# Altium footprint library CL05B103KA5NNND.PcbLib: 3 footprints
Each footprint in its own frame and in the unit in brackets; x right, y up, seen from the top. Pads: shape width x height; smd on the part's side, far side on the other; paste and mask are expansions set on the pad; w line width, h text height; cw(c..) or ccw(c..) is an arc to the next point about the centre after c.
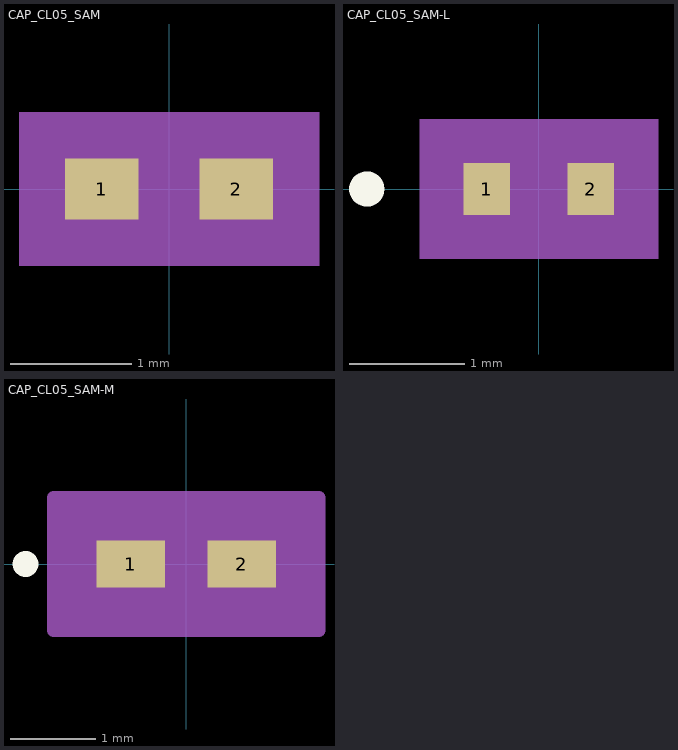
[diagram p0: the footprints below, top view; thin cyan lines are the x and y axes]

## CAP_CL05_SAM [mm]
pads (2):
  rect 0.606x0.5 smd paste+0 mask+0: 1(-0.553,0) 2(0.553,0)
Mechanical 5:
  region: 1.237,-0.631 -1.237,-0.631 -1.237,0.631 1.237,0.631
Mechanical 13:
  circle w0: c-0.426,0 r0
  lines w0.025: -0.5,-0.25 -0.5,0.25 ; -0.5,-0.25 -0.25,-0.25 -0.25,0.25 -0.5,0.25 ; -0.5,-0.25 0.5,-0.25 ; -0.5,-0.25 -0.5,0.25 ; -0.5,0.25 0.5,0.25 ; 0.5,-0.25 0.25,-0.25 0.25,0.25 0.5,0.25 ; 0.5,-0.25 0.5,0.25 ; 0.5,-0.25 0.5,0.25
Mechanical 15:
  region: 1.11,-0.504 -1.11,-0.504 -1.11,0.504 1.11,0.504
  lines w0.152: -1.11,-0.504 -1.11,0.504 1.11,0.504 1.11,-0.504 -1.11,-0.504
3D body "CAP_CL05_SAM.step": height 0.55, standoff 0, extent -0.5,-0.25 0.5,0.25

## CAP_CL05_SAM-L [mm]
pads (2):
  rect 0.402x0.449 smd paste+0 mask+0: 1(-0.451,0) 2(0.451,0)
Top Overlay:
  circle w0.152: c-1.491,0 r0.076
Mechanical 5:
  region: 1.033,-0.606 -1.033,-0.606 -1.033,0.606 1.033,0.606
Mechanical 13:
  circle w0: c-0.324,0 r0.076
  lines w0.025: -0.5,-0.25 -0.5,0.25 ; -0.5,-0.25 -0.25,-0.25 -0.25,0.25 -0.5,0.25 ; -0.5,-0.25 0.5,-0.25 ; -0.5,-0.25 -0.5,0.25 ; -0.5,0.25 0.5,0.25 ; 0.5,-0.25 0.25,-0.25 0.25,0.25 0.5,0.25 ; 0.5,-0.25 0.5,0.25 ; 0.5,-0.25 0.5,0.25
Mechanical 15:
  region: 0.754,-0.326 -0.754,-0.326 -0.754,0.326 0.754,0.326
  lines w0.152: -0.754,-0.326 -0.754,0.326 0.754,0.326 0.754,-0.326 -0.754,-0.326
3D body "CAP_CL05_SAM.step": height 0.55, standoff 0, extent -0.5,-0.25 0.5,0.25

## CAP_CL05_SAM-M [mm]
pads (2):
  rect 0.809x0.551 smd paste+0 mask+0: 1(-0.654,0) 2(0.654,0)
Top Overlay:
  circle w0.152: c-1.897,0 r0.076
Mechanical 5:
  region: 1.44,-0.656 -1.44,-0.656 -1.44,0.656 1.44,0.656
Mechanical 13:
  circle w0: c-0.527,0 r0.076
  lines w0.025: -0.5,-0.25 -0.5,0.25 ; -0.5,-0.25 -0.25,-0.25 -0.25,0.25 -0.5,0.25 ; -0.5,-0.25 0.5,-0.25 ; -0.5,-0.25 -0.5,0.25 ; -0.5,0.25 0.5,0.25 ; 0.5,-0.25 0.25,-0.25 0.25,0.25 0.5,0.25 ; 0.5,-0.25 0.5,0.25 ; 0.5,-0.25 0.5,0.25
Mechanical 15:
  region: 1.567,-0.783 -1.567,-0.783 -1.567,0.783 1.567,0.783
  lines w0.152: -1.567,-0.783 -1.567,0.783 1.567,0.783 1.567,-0.783 -1.567,-0.783
3D body "CAP_CL05_SAM.step": height 0.55, standoff 0, extent -0.5,-0.25 0.5,0.25